# EAGLE library part MC74HC595ADR2G (library brett-custom)
8-Bit Serial-Input/Serial Parallel-Output Shift 3-State Outputs
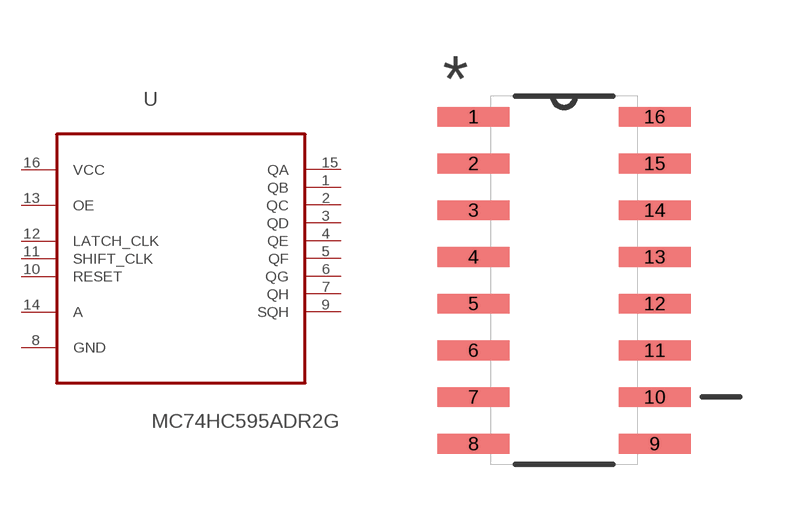
[diagram p3: symbol with the pads of SOIC127P600X175-16N; footprint SOIC127P600X175-16N]

Designator prefix U

## MC74HC595ADR2G (MPN: MC74HC595ADR2G; OC_FARNELL: 1278491; OC_NEWARK: 84K8783; PACKAGE: SOIC-16; SUPPLIER: On Semiconductor)  [SOIC127P600X175-16N]
1  QB  out
2  QC  out
3  QD  out
4  QE  out
5  QF  out
6  QG  out
7  QH  out
8  GND  pas
9  SQH  out
10  RESET  in
11  SHIFT_CLK  in
12  LATCH_CLK  in
13  OE  in
14  A  in
15  QA  in
16  VCC  pwr

## Footprint SOIC127P600X175-16N (pad centres in mm)
smd 1.956 x 0.533: 1 -2.464,4.445; 2 -2.464,3.175; 3 -2.464,1.905; 4 -2.464,0.635; 5 -2.464,-0.635; 6 -2.464,-1.905; 7 -2.464,-3.175; 8 -2.464,-4.445; 9 2.464,-4.445; 10 2.464,-3.175; 11 2.464,-1.905; 12 2.464,-0.635; 13 2.464,0.635; 14 2.464,1.905; 15 2.464,3.175; 16 2.464,4.445